# Altium integrated library SN754410NEE4.IntLib: 1 symbol
Pins are listed as number, name and electrical type; pins without a type are passive.

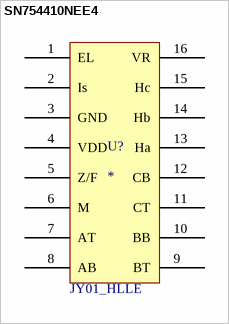
[diagram p0: symbol SN754410NEE4]

## SN754410NEE4
designator U?
Quadruple Half-H Drivers 16-PDIP -40 to 85; MP: SN754410NEE4; MF: Texas Instruments; Availability: In Stock; SnapEDA_Link: https://www.snapeda.com/parts/SN754410NEE4/Texas+Instruments/view-part/?ref=snap; Value: *; Price: None; Package: PDIP-16 Texas Instruments; Purchase-URL: https://pricing.snapeda.com/search/part/SN754410NEE4/?ref=eda; Check_prices: https://www.snapeda.com/parts/SN754410NEE4/Texas+Instruments/view-part/?ref=eda
footprint DIP762W45P254L1980H508Q16
pins: 1 EL, 2 Is, 3 GND, 4 VDD, 5 Z/F, 6 M, 7 AT, 8 AB, 9 BT, 10 BB, 11 CT, 12 CB, 13 Ha, 14 Hb, 15 Hc, 16 VR
text: JY01_HLLE